# EAGLE library part MAX11040 (library paparazzi3)
24-Bit 4-Channel ADC
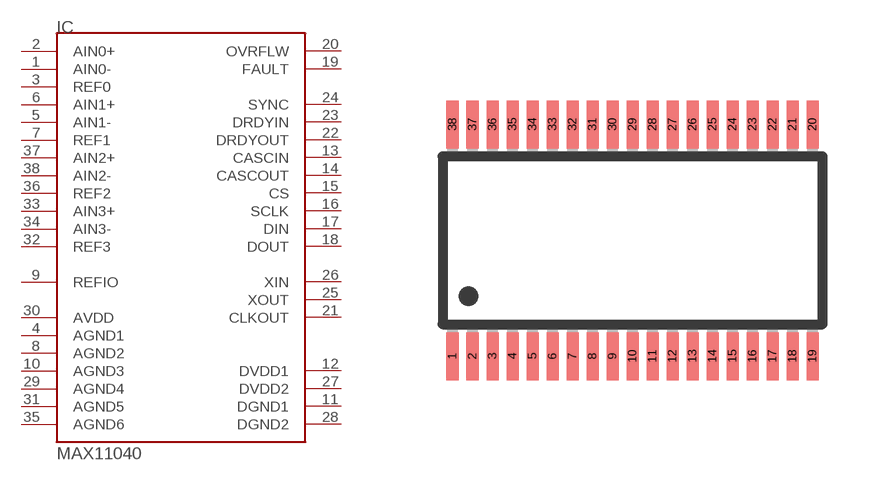
[diagram p57: symbol with the pads of TSSOP38; footprint TSSOP38]

Designator prefix IC

## MAX11040  [TSSOP38]
1  AIN0-  in
2  AIN0+  in
3  REF0
4  AGND1  pwr
5  AIN1-  in
6  AIN1+  in
7  REF1
8  AGND2  pwr
9  REFIO
10  AGND3  pwr
11  DGND1  pwr
12  DVDD1  pwr
13  CASCIN  in
14  CASCOUT  out
15  CS  in
16  SCLK  in
17  DIN  in
18  DOUT  out
19  FAULT  out
20  OVRFLW  out
21  CLKOUT  out
22  DRDYOUT  out
23  DRDYIN  in
24  SYNC  in
25  XOUT
26  XIN
27  DVDD2  pwr
28  DGND2  pwr
29  AGND4  pwr
30  AVDD  pwr
31  AGND5  pwr
32  REF3
33  AIN3+  in
34  AIN3-  in
35  AGND6  pwr
36  REF2
37  AIN2+  in
38  AIN2-  in

## Footprint TSSOP38 (pad centres in mm)
smd 0.3 x 1.2: 1 -4.5,-2.9; 2 -4,-2.9; 3 -3.5,-2.9; 4 -3,-2.9; 5 -2.5,-2.9; 6 -2,-2.9; 7 -1.5,-2.9; 8 -1,-2.9; 9 -0.5,-2.9; 10 0,-2.9; 11 0.5,-2.9; 12 1,-2.9; 13 1.5,-2.9; 14 2,-2.9; 15 2.5,-2.9; 16 3,-2.9; 17 3.5,-2.9; 18 4,-2.9; 19 4.5,-2.9; 20 4.5,2.9; 21 4,2.9; 22 3.5,2.9; 23 3,2.9; 24 2.5,2.9; 25 2,2.9; 26 1.5,2.9; 27 1,2.9; 28 0.5,2.9; 29 0,2.9; 30 -0.5,2.9; 31 -1,2.9; 32 -1.5,2.9; 33 -2,2.9; 34 -2.5,2.9; 35 -3,2.9; 36 -3.5,2.9; 37 -4,2.9; 38 -4.5,2.9